# EAGLE library part BUS-POWER (library motorFeedback)
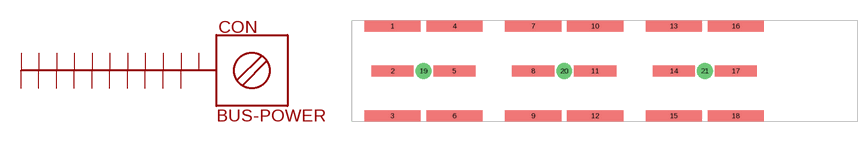
[diagram p24: symbol with the pads of BUS-LAYOUT; footprint BUS-LAYOUT]

Designator prefix CON

## BUS-POWER  [BUS-LAYOUT]
1  1
2  2
3  3
4  4
5  5
6  6
7  7
8  8
9  9
10  10
11  11
12  12
13  13
14  14
15  15
16  16
17  17
18  18
19  19
20  20
21  21

## Footprint BUS-LAYOUT (pad centres in mm)
smd 12.7 x 2.54: 1 9.271,10.16; 3 9.271,-10.16; 4 23.241,10.16; 6 23.241,-10.16; 7 41.021,10.16; 9 41.021,-10.16; 10 54.991,10.16; 12 54.991,-10.16; 13 72.771,10.16; 15 72.771,-10.16; 16 86.741,10.16; 18 86.741,-10.16
smd 9.525 x 2.54: 2 9.271,0; 5 23.241,0; 8 41.021,0; 11 54.991,0; 14 72.771,0; 17 86.741,0
drill 2.54: 19 16.256,0; 20 48.006,0; 21 79.756,0